# Altium schematic symbol library TMC2208-LA-T.SchLib: 1 symbol
Pins are listed as number, name and electrical type; pins without a type are passive.

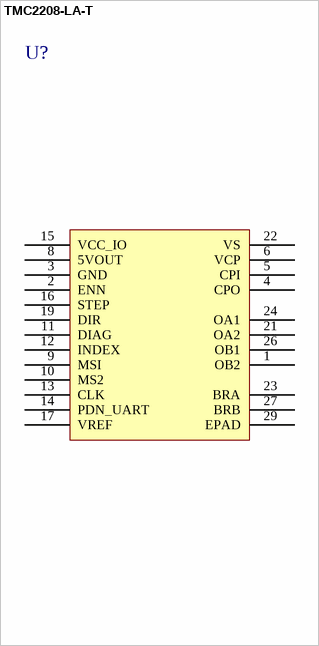
[diagram p0: symbol TMC2208-LA-T]

## TMC2208-LA-T
designator U?
pins: 1 OB2, 2 ENN, 3 GND, 4 CPO, 5 CPI, 6 VCP, 8 5VOUT, 9 MSI, 10 MS2, 11 DIAG, 12 INDEX, 13 CLK, 14 PDN_UART, 15 VCC_IO, 16 STEP, 17 VREF, 19 DIR, 21 OA2, 22 VS, 23 BRA, 24 OA1, 26 OB1, 27 BRB, 29 EPAD